# Altium schematic symbol library 常用芯片类.SchLib: 14 symbols
Pins are listed as number, name and electrical type; pins without a type are passive.

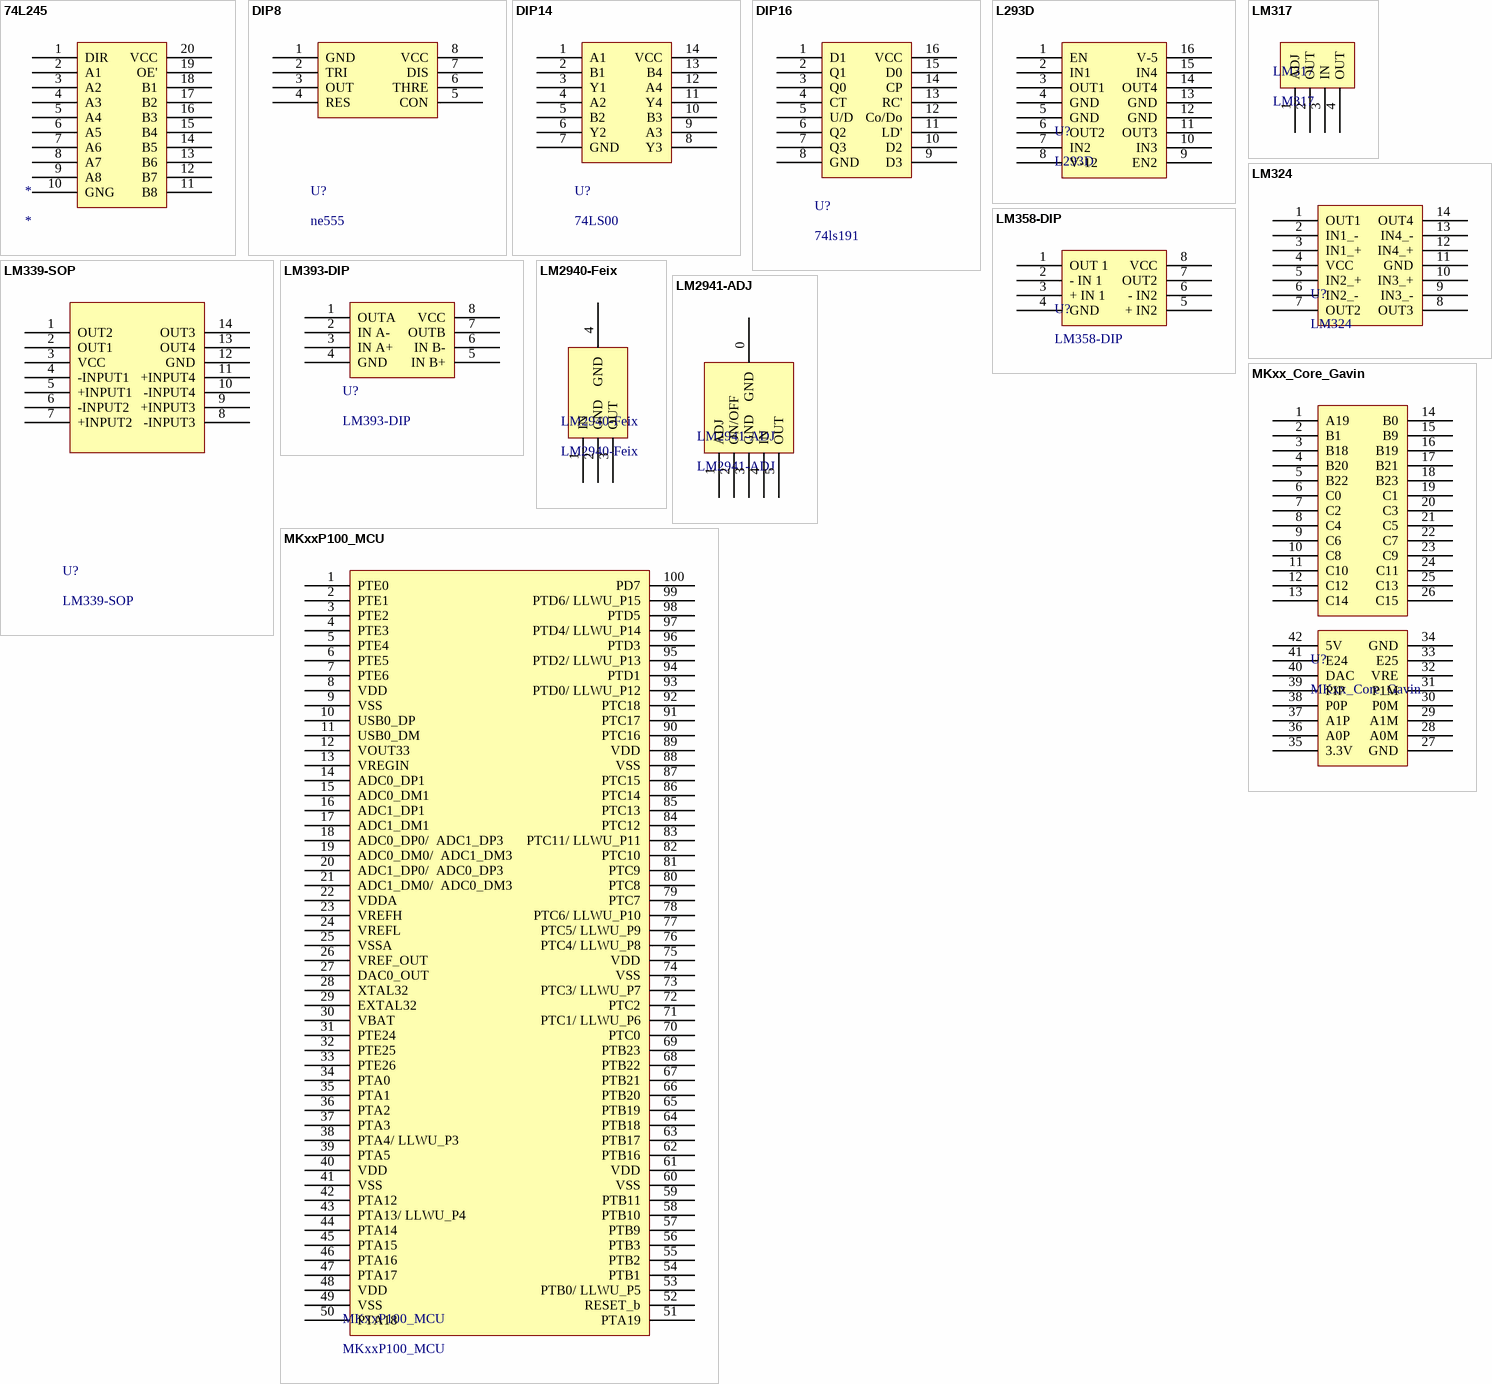
[diagram p0: symbols 74L245 to MKxxP100_MCU]

## 74L245
designator *
footprint TSSOP20
pins: 1 DIR, 2 A1, 3 A2, 4 A3, 5 A4, 6 A5, 7 A6, 8 A7, 9 A8, 10 GNG, 11 B8, 12 B7, 13 B6, 14 B5, 15 B4, 16 B3, 17 B2, 18 B1, 19 OE', 20 VCC

## DIP8
designator U?, comment ne555
footprint DIP8
pins: 1 GND, 2 TRI, 3 OUT, 4 RES, 5 CON, 6 THRE, 7 DIS, 8 VCC

## DIP14
designator U?, comment 74LS00
footprint DIP14
pins: 1 A1, 2 B1, 3 Y1, 4 A2, 5 B2, 6 Y2, 7 GND, 8 Y3, 9 A3, 10 B3, 11 Y4, 12 A4, 13 B4, 14 VCC

## DIP16
designator U?, comment 74ls191
footprint DIP16
pins: 1 D1, 2 Q1, 3 Q0, 4 CT, 5 U/D, 6 Q2, 7 Q3, 8 GND, 9 D3, 10 D2, 11 LD', 12 Co/Do, 13 RC', 14 CP, 15 D0, 16 VCC

## L293D
designator U?
footprint DIP16
footprint Model Name (Footprint not found)
pins: 1 EN, 2 IN1, 3 OUT1, 4 GND, 5 GND, 6 OUT2, 7 IN2, 8 V-12, 9 EN2, 10 IN3, 11 OUT3, 12 GND, 13 GND, 14 OUT4, 15 IN4, 16 V-5
1 alternate drawing of the same symbol

## LM317
designator LM317
footprint SOT-223
pins: 1 ADJ, 2 OUT, 3 IN, 4 OUT

## LM324
designator U?
footprint LM324
footprint Model Name (Footprint not found)
pins: 1 OUT1, 2 IN1_-, 3 IN1_+, 4 VCC, 5 IN2_+, 6 IN2_-, 7 OUT2, 8 OUT3, 9 IN3_-, 10 IN3_+, 11 GND, 12 IN4_+, 13 IN4_-, 14 OUT4

## LM339-SOP
designator U?
footprint SO-14
footprint Model Name (Footprint not found)
pins: 1 OUT2, 2 OUT1, 3 VCC, 4 -INPUT1, 5 +INPUT1, 6 -INPUT2, 7 +INPUT2, 8 -INPUT3, 9 +INPUT3, 10 -INPUT4, 11 +INPUT4, 12 GND, 13 OUT4, 14 OUT3

## LM358-DIP
designator U?
footprint DIP8
pins: 1 OUT 1, 2 - IN 1, 3 + IN 1, 4 GND, 5 + IN2, 6 - IN2, 7 OUT2, 8 VCC

## LM393-DIP
designator U?
footprint DIP8
pins: 1 OUTA, 2 IN A-, 3 IN A+, 4 GND, 5 IN B+, 6 IN B-, 7 OUTB, 8 VCC

## LM2940-Feix
designator LM2940-Feix
pins: 1 IN, 2 GND, 3 OUT, 4 GND

## LM2941-ADJ
designator LM2941-ADJ
footprint TO-263-5
pins: 0 GND, 1 ADJ, 2 ON/OFF, 3 GND, 4 IN, 5 OUT

## MKxx_Core_Gavin
designator U?
footprint MKxx_core_gavin
pins: 1 A19, 2 B1, 3 B18, 4 B20, 5 B22, 6 C0, 7 C2, 8 C4, 9 C6, 10 C8, 11 C10, 12 C12, 13 C14, 14 B0, 15 B9, 16 B19, 17 B21, 18 B23, 19 C1, 20 C3, 21 C5, 22 C7, 23 C9, 24 C11, 25 C13, 26 C15, 27 GND, 28 A0M, 29 A1M, 30 P0M, 31 P1M, 32 VRE, 33 E25, 34 GND, 35 3.3V, 36 A0P, 37 A1P, 38 P0P, 39 PIP, 40 DAC, 41 E24, 42 5V

## MKxxP100_MCU
designator MKxxP100_MCU
footprint LQFP-100
pins: 1 PTE0, 2 PTE1, 3 PTE2, 4 PTE3, 5 PTE4, 6 PTE5, 7 PTE6, 8 VDD, 9 VSS, 10 USB0_DP, 11 USB0_DM, 12 VOUT33, 13 VREGIN, 14 ADC0_DP1, 15 ADC0_DM1, 16 ADC1_DP1, 17 ADC1_DM1, 18 ADC0_DP0/  ADC1_DP3, 19 ADC0_DM0/  ADC1_DM3, 20 ADC1_DP0/  ADC0_DP3, 21 ADC1_DM0/  ADC0_DM3, 22 VDDA, 23 VREFH, 24 VREFL, 25 VSSA, 26 VREF_OUT, 27 DAC0_OUT, 28 XTAL32, 29 EXTAL32, 30 VBAT, 31 PTE24, 32 PTE25, 33 PTE26, 34 PTA0, 35 PTA1, 36 PTA2, 37 PTA3, 38 PTA4/ LLWU_P3, 39 PTA5, 40 VDD, 41 VSS, 42 PTA12, 43 PTA13/ LLWU_P4, 44 PTA14, 45 PTA15, 46 PTA16, 47 PTA17, 48 VDD, 49 VSS, 50 PTA18, 51 PTA19, 52 RESET_b, 53 PTB0/ LLWU_P5, 54 PTB1, 55 PTB2, 56 PTB3, 57 PTB9, 58 PTB10, 59 PTB11, 60 VSS, 61 VDD, 62 PTB16, 63 PTB17, 64 PTB18, 65 PTB19, 66 PTB20, 67 PTB21, 68 PTB22, 69 PTB23, 70 PTC0, 71 PTC1/ LLWU_P6, 72 PTC2, 73 PTC3/ LLWU_P7, 74 VSS, 75 VDD, 76 PTC4/ LLWU_P8, 77 PTC5/ LLWU_P9, 78 PTC6/ LLWU_P10, 79 PTC7, 80 PTC8, 81 PTC9, 82 PTC10, 83 PTC11/ LLWU_P11, 84 PTC12, 85 PTC13, 86 PTC14, 87 PTC15, 88 VSS, 89 VDD, 90 PTC16, 91 PTC17, 92 PTC18, 93 PTD0/ LLWU_P12, 94 PTD1, 95 PTD2/ LLWU_P13, 96 PTD3, 97 PTD4/ LLWU_P14, 98 PTD5, 99 PTD6/ LLWU_P15, 100 PD7